# EAGLE library part AD8231TCPZ-EP-R7 (library AD8231TCPZ-EP-R7)
Instrumentation Amplifiers Low Volt Low Drift Signal Condition Amp Source: Datasheet <https://www.analog.com/media/en/technical-documentation/data-sheets/AD8231-EP.pdf>
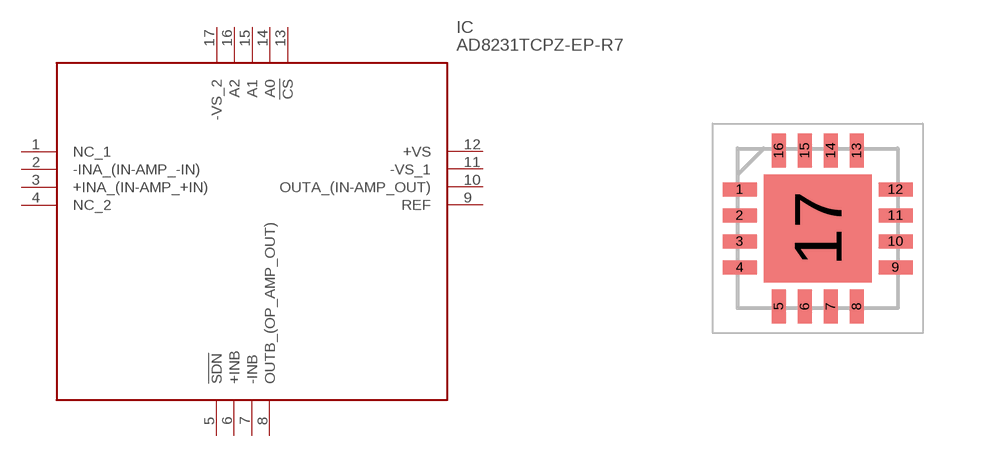
[diagram p0: symbol with the pads of QFN65P400X400X80-17N; footprint QFN65P400X400X80-17N]

Designator prefix IC

## AD8231TCPZ-EP-R7 (Description: Instrumentation Amplifiers Low Volt Low Drift Signal Condition Amp; Height: 0.8mm; Manufacturer_Name: Analog Devices; Manufacturer_Part_Number: AD8231TCPZ-EP-R7; Mouser_Part_Number: 584-AD8231TCPZ-EP-R7; Mouser_Price-Stock: https://www.mouser.co.uk/ProductDetail/Analog-Devices/AD8231TCPZ-EP-R7?qs=%2FtpEQrCGXCwVvPTzyZftPQ%3D%3D)  [QFN65P400X400X80-17N]
1  NC_1
2  -INA_(IN-AMP_-IN)
3  +INA_(IN-AMP_+IN)
4  NC_2
5  !SDN
6  +INB
7  -INB
8  OUTB_(OP_AMP_OUT)
9  REF
10  OUTA_(IN-AMP_OUT)
11  -VS_1
12  +VS
13  !CS
14  A0
15  A1
16  A2
17  -VS_2

## Footprint QFN65P400X400X80-17N (pad centres in mm)
CP-16-17 (LFCSP)
smd 0.85 x 0.35: 1 -1.95,0.975; 2 -1.95,0.325; 3 -1.95,-0.325; 4 -1.95,-0.975; 9 1.95,-0.975; 10 1.95,-0.325; 11 1.95,0.325; 12 1.95,0.975
smd 0.35 x 0.85: 5 -0.975,-1.95; 6 -0.325,-1.95; 7 0.325,-1.95; 8 0.975,-1.95; 13 0.975,1.95; 14 0.325,1.95; 15 -0.325,1.95; 16 -0.975,1.95
smd 2.7 x 2.7: 17 0,0